# Altium footprint library RESC_1210_M3225.PcbLib: 1 footprints
Each footprint in its own frame and in the unit in brackets; x right, y up, seen from the top. Pads: shape width x height; smd on the part's side, far side on the other; paste and mask are expansions set on the pad; w line width, h text height; cw(c..) or ccw(c..) is an arc to the next point about the centre after c.
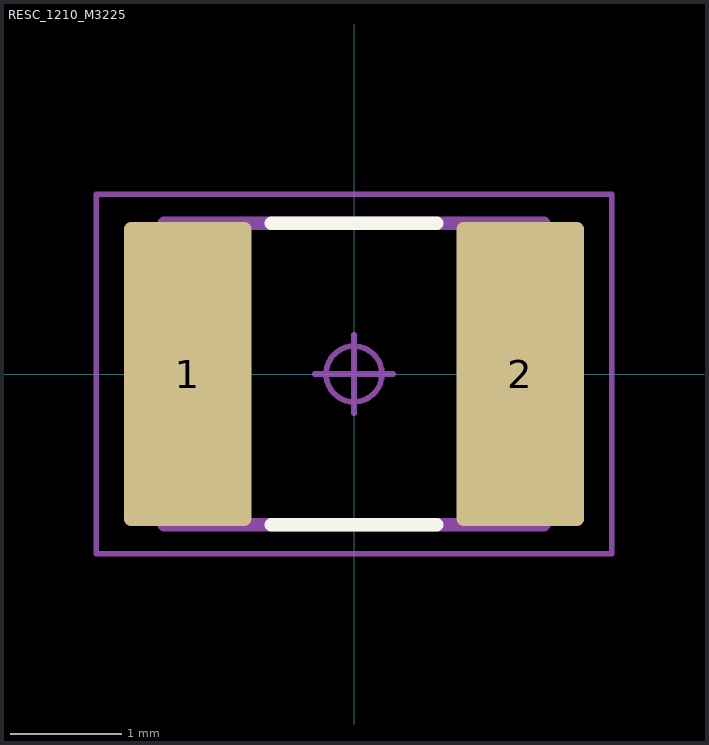
[diagram p0: the footprint, top view; thin cyan lines are the x and y axes]

## RESC_1210_M3225 [mm] "Resistor, Chip; 3.20 mm L X 2.50 mm W X 0.70 mm H body"
pads (2):
  rrect10% 1.14x2.72 smd: 1(-1.49,0) 2(1.49,0)
Top Overlay:
  lines w0.12: -0.74,-1.35 0.74,-1.35 ; -0.74,1.35 0.74,1.35
Mechanical 11:
  lines w0.12: -1.7,-1.35 -1.7,1.35 1.7,1.35 1.7,-1.35 -1.7,-1.35
  text ".Designator" at -2.732,-0.334 h1.5
Mechanical 15:
  circle w0.05: c0,0 r0.25
  lines w0.05: -0.35,0 0.35,0 ; 0,-0.35 0,0.35 ; -2.31,-1.61 -2.31,1.61 2.31,1.61 2.31,-1.61 -2.31,-1.61
3D body "RESC_1210_M3225.STEP": height 0.7, standoff 0, extent -1.7,-1.35 1.7,1.35